# Altium schematic symbol library Schlib1.SchLib: 4 symbols
Pins are listed as number, name and electrical type; pins without a type are passive.

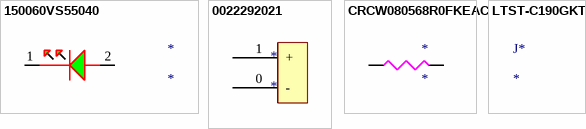
[diagram p0: symbols 150060VS55040 to LTST-C190GKT]

## 150060VS55040
designator *
Single Color LED; Manufacturer: Wurth Electronics; Manufacturer Part Number: 150060VS55040; Supplier: Digikey; Supplier Part Number: 732-12017-1-ND; RoHS: Yes; Category: LEDs; Stock: 10387; Pricing: 1=0.19, 10=0.173, 100=0.157, 500=0.141, 1000=0.125 (USD); Optoelectronic Device Type: SINGLE COLOR LED; Reach SVHC Compliant: Yes; RoHS Compliant: Yes; ComponentLink1URL: https://datasheet.ciiva.com:443/pdfs/VipMasterIC/IC/MIDC/MIDC-S-A0006621241/MIDC-S-A0006621241-1.pdf?src-supplier=IHS+Markit; ComponentLink1Description: https://datasheet.ciiva.com:443/pdfs/VipMasterIC/IC/MIDC/MIDC-S-A0006621241/MIDC-S-A0006621241-1.pdf?src-supplier=IHS+Markit; ComponentLink2URL: http://www.farnell.com/datasheets/2621647.pdf?src-supplier=Farnell; ComponentLink2Description: http://www.farnell.com/datasheets/2621647.pdf?src-supplier=Farnell; ComponentLink3URL: http://www.farnell.com/datasheets/2621647.pdf?src-supplier=Element14; ComponentLink3Description: http://www.farnell.com/datasheets/2621647.pdf?src-supplier=Element14; ComponentLink4URL: https://www.we-online.de/web/en/index.php/download/media/07_electronic_components/download_center_1/application_notes_berichte/ano002_leds___the_future_of_horticultural_lighting/ANO002b_EN_LEDs_The_Future_of_Horticultural_Lighting.pdf?src-supplier=Digikey; ComponentLink4Description: https://www.we-online.de/web/en/index.php/download/media/07_electronic_components/download_center_1/application_notes_berichte/ano002_leds___the_future_of_horticultural_lighting/ANO002b_EN_LEDs_The_Future_of_Horticultural_Lighting.pdf?src-supplier=Digikey; ComponentLink5URL: https://katalog.we-online.de/pbs/datasheet/150060VS55040.pdf?src-supplier=Digikey; ComponentLink5Description: https://katalog.we-online.de/pbs/datasheet/150060VS55040.pdf?src-supplier=Digikey; ComponentLink6URL: http://www.farnell.com/datasheets/2621647.pdf?src-supplier=Newark; ComponentLink6Description: http://www.farnell.com/datasheets/2621647.pdf?src-supplier=Newark
pins: 1 2, 2

## 0022292021
designator *
Board Connector, 2 Contact(s), 1 Row(s), Male, Straight, Solder Terminal; Manufacturer: Molex; Manufacturer Part Number: 0022292021; Supplier: Digikey; Supplier Part Number: WM2744-ND; RoHS: No; Stock: 124448; Pricing: 1=0.34, 10=0.286, 100=0.2225, 3000=0.18654 (USD); ComponentLink1URL: https://datasheet.octopart.com/022292021-Molex-datasheet-5315839.pdf?src-supplier=Farnell; ComponentLink1Description: https://datasheet.octopart.com/022292021-Molex-datasheet-5315839.pdf?src-supplier=Farnell; ComponentLink2URL: https://datasheet.octopart.com/22-29-2021-Molex-datasheet-144804.pdf?src-supplier=Digikey; ComponentLink2Description: https://datasheet.octopart.com/22-29-2021-Molex-datasheet-144804.pdf?src-supplier=Digikey; ComponentLink3URL: https://datasheet.octopart.com/22-29-2021-Molex-datasheet-33002381.pdf?src-supplier=Newark; ComponentLink3Description: https://datasheet.octopart.com/22-29-2021-Molex-datasheet-33002381.pdf?src-supplier=Newark; ComponentLink4URL: https://datasheet.octopart.com/22-29-2021-Molex-datasheet-7277451.pdf?src-supplier=Jameco; ComponentLink4Description: https://datasheet.octopart.com/22-29-2021-Molex-datasheet-7277451.pdf?src-supplier=Jameco; ComponentLink5URL: https://datasheet.octopart.com/22-29-2021-Molex-datasheet-17586671.pdf?src-supplier=TME; ComponentLink5Description: https://datasheet.octopart.com/22-29-2021-Molex-datasheet-17586671.pdf?src-supplier=TME
pins: 0 -, 1 +

## CRCW080568R0FKEAC
designator *
Fixed Resistor, Metal Glaze/thick Film, 0.125W, 68ohm, 150V, 1% +/-Tol, 100ppm/Cel, Surface Mount, 0805; Manufacturer: Vishay; Manufacturer Part Number: CRCW080568R0FKEAC; Power: 125mW; Value: 68R; Temperature Coefficient: -100100ppm/°C; Package Height: 0.5mm; Package Length: 2mm; Package Width: 1.25mm; Supplier: Digikey; Supplier Part Number: 541-CRCW080568R0FKEACCT-ND; RoHS: Yes; Category: Chip SMD Resistors; Stock: 117217; Pricing: 1=0.1, 10=0.036, 50=0.0234, 100=0.0197, 500=0.01372, 1000=0.01194 (USD); Pins: 2; Case/Package: 0805; Terminal Finish: Nickel; Min Operating Temperature: -55°C; Max Operating Temperature: 155°C; Tolerance: 1%; JESD-609 Code: e3; Resistor Type: FIXED RESISTOR; Construction: Chip; Package Style: SMTMeter; Packaging: Tape and Reel; Technology: METAL GLAZE/THICK FILM; Working Voltage: 150V; Reach SVHC Compliant: Yes; RoHS Compliant: Yes; ComponentLink1URL: https://datasheet.ciiva.com:443/pdfs/VipMasterIC/IC/VISH/VISH-S-A0003599164/VISH-S-A0003599164-1.pdf?src-supplier=IHS+Markit; ComponentLink1Description: https://datasheet.ciiva.com:443/pdfs/VipMasterIC/IC/VISH/VISH-S-A0003599164/VISH-S-A0003599164-1.pdf?src-supplier=IHS+Markit
pins: 4, 5

## LTST-C190GKT
designator J*
Single Color LED, Green, Water Clear, 1.1mm; Manufacturer: Vishay Lite-On; Manufacturer Part Number: LTST-C190GKT; Shape: Rectangular; Forward Current: 30mA; Luminous Intensity-Nom: 6mcd; Channels: 1; Viewing Angle: 130°; Forward Voltage: 2.6V; Reverse Voltage-Max: 5V; Overall Height: 0.8mm; Supplier: Digikey; Supplier Part Number: 160-1183-1-ND; RoHS: Yes; Category: LEDs; Stock: 1843871; Pricing: 1=0.24, 10=0.133, 100=0.0617, 500=0.05696, 1000=0.04462, 2000=0.04367 (USD); Mounting Technology: Surface Mount; Pins: 2; Color: Green; Color@wavelength: Green; Terminal Finish: Tin; Min Operating Temperature: -55°C; Max Operating Temperature: 85°C; Optoelectronic Device Type: SINGLE COLOR LED; Packaging: Tape and Reel; Lens Style: WATER CLEAR; JESD-609 Code: e3; Size: 1.1mm; Terminal Pitch: 1.5mm; RoHS Compliant: Yes; Reach SVHC Compliant: Yes; ComponentLink1URL: https://datasheet.ciiva.com:443/pdfs/VipMasterIC/IC/LITE/LITES10869/LITES10869-1.pdf?src-supplier=IHS+Markit; ComponentLink1Description: https://datasheet.ciiva.com:443/pdfs/VipMasterIC/IC/LITE/LITES10869/LITES10869-1.pdf?src-supplier=IHS+Markit; ComponentLink2URL: https://datasheet.ciiva.com/11775/0900766b80dc02a6-11775616.pdf?src-supplier=Rs; ComponentLink2Description: https://datasheet.ciiva.com/11775/0900766b80dc02a6-11775616.pdf?src-supplier=Rs; ComponentLink3URL: https://datasheet.ciiva.com/12403/lite-on-ltst-c190gkt-187204-12403884.pdf?src-supplier=Mouser; ComponentLink3Description: https://datasheet.ciiva.com/12403/lite-on-ltst-c190gkt-187204-12403884.pdf?src-supplier=Mouser; ComponentLink4URL: https://datasheet.ciiva.com/2109/ltst-c190gkt-2109985.pdf?src-supplier=Digikey; ComponentLink4Description: https://datasheet.ciiva.com/2109/ltst-c190gkt-2109985.pdf?src-supplier=Digikey; ComponentLink5URL: https://datasheet.ciiva.com/16392/lite-on20ltst-c190gkt-16392818.pdf?src-supplier=Future+Electronics; ComponentLink5Description: https://datasheet.ciiva.com/16392/lite-on20ltst-c190gkt-16392818.pdf?src-supplier=Future+Electronics; ComponentLink6URL: https://datasheet.ciiva.com/2109/ltst-c190gkt-2109986.pdf?src-supplier=Digikey; ComponentLink6Description: https://datasheet.ciiva.com/2109/ltst-c190gkt-2109986.pdf?src-supplier=Digikey; ComponentLink7URL: https://datasheet.ciiva.com/2109/ltst-c190gkt-2109987.pdf?src-supplier=Digikey; ComponentLink7Description: https://datasheet.ciiva.com/2109/ltst-c190gkt-2109987.pdf?src-supplier=Digikey